# EAGLE library part 691307500012 (library Eagle_WR-TBL Pluggable Connector (rev21a))
WR-TBL Serie 3075 - 5.08 mm Reversed Gender Vertical PCB Header KIND PROPERTIES Pitch 5.08 mm MATERIAL PROPERTIES Insulator Material PA66 Insulator Flammability Rating UL94 V-0 Contact Material Brass Contact Plating Tin GENERAL INFORMATION Operating Temperature -40 up to +105 °C Compliance RoHS ELECTRICAL PROPERTIES IR cULus 20 A Working Voltage [cULus] 300 V (AC) Withstanding Voltage [cULus] 1600 V (AC) Contact Resistance [cULus] 20 mΩ CERTIFICATION cULus Approval E315414 <https://www.we-online.com/catalog/media/o33112v209%20Family_WR-LTB_69130750000x.jpg> Details see: https://www.we-online.com/catalog/en/TBL_5_08_3075_REVERSED_GENDER_VERTICAL_PCB_HEADER_69130750000X/ Updated by Ella Wu 2019-12-26 2019(C) Wurth Elektronik
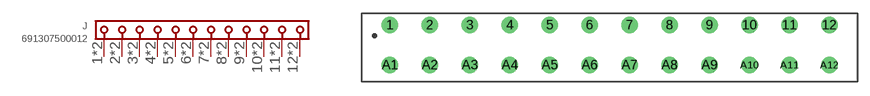
[diagram p394: symbol with the pads of 691307500012; footprint 691307500012]

Designator prefix J

## 691307500012 (DATASHEET-URL: https://www.we-online.com/catalog/datasheet/691307500012.pdf; IR-UL: 20A; MOUNT: THT; PART-NUMBER: 691307500012; PINS: 12; PITCH: 5.08mm; TYPE: Vertical; VALUE: 691307500012; WORKING-VOLTAGE-UL: 300V (AC))  [691307500012]
1  1  pas
2  2  pas
3  3  pas
4  4  pas
5  5  pas
6  6  pas
7  7  pas
8  8  pas
9  9  pas
10  10  pas
11  11  pas
12  12  pas
A1  1  pas
A2  2  pas
A3  3  pas
A4  4  pas
A5  5  pas
A6  6  pas
A7  7  pas
A8  8  pas
A9  9  pas
A10  10  pas
A11  11  pas
A12  12  pas

## Footprint 691307500012 (pad centres in mm)
WR-TBL Serie 3075 - 5.08 mm Reversed Gender Vertical PCB Header Max Height = 19mm , Pitch 5.08mm , 12pins
drill 1.4: 1 -27.94,2.54; 2 -22.86,2.54; 3 -17.78,2.54; 4 -12.7,2.54; 5 -7.62,2.54; 6 -2.54,2.54; 7 2.54,2.54; 8 7.62,2.54; 9 12.7,2.54; 10 17.78,2.54; 11 22.86,2.54; 12 27.94,2.54; A1 -27.94,-2.54; A2 -22.86,-2.54; A3 -17.78,-2.54; A4 -12.7,-2.54; A5 -7.62,-2.54; A6 -2.54,-2.54; A7 2.54,-2.54; A8 7.62,-2.54; A9 12.7,-2.54; A10 17.78,-2.54; A11 22.86,-2.54; A12 27.94,-2.54